# Altium schematic symbol library XTAL.SchLib: 1 symbol
Pins are listed as number, name and electrical type; pins without a type are passive.

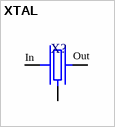
[diagram p0: symbol XTAL]

## XTAL
designator X?
pins: 1 In, 2, 3 Out